# Altium footprint library PcbParts.PcbLib: 11 footprints
Each footprint in its own frame and in the unit in brackets; x right, y up, seen from the top. Pads: shape width x height; smd on the part's side, far side on the other; paste and mask are expansions set on the pad; w line width, h text height; cw(c..) or ccw(c..) is an arc to the next point about the centre after c.
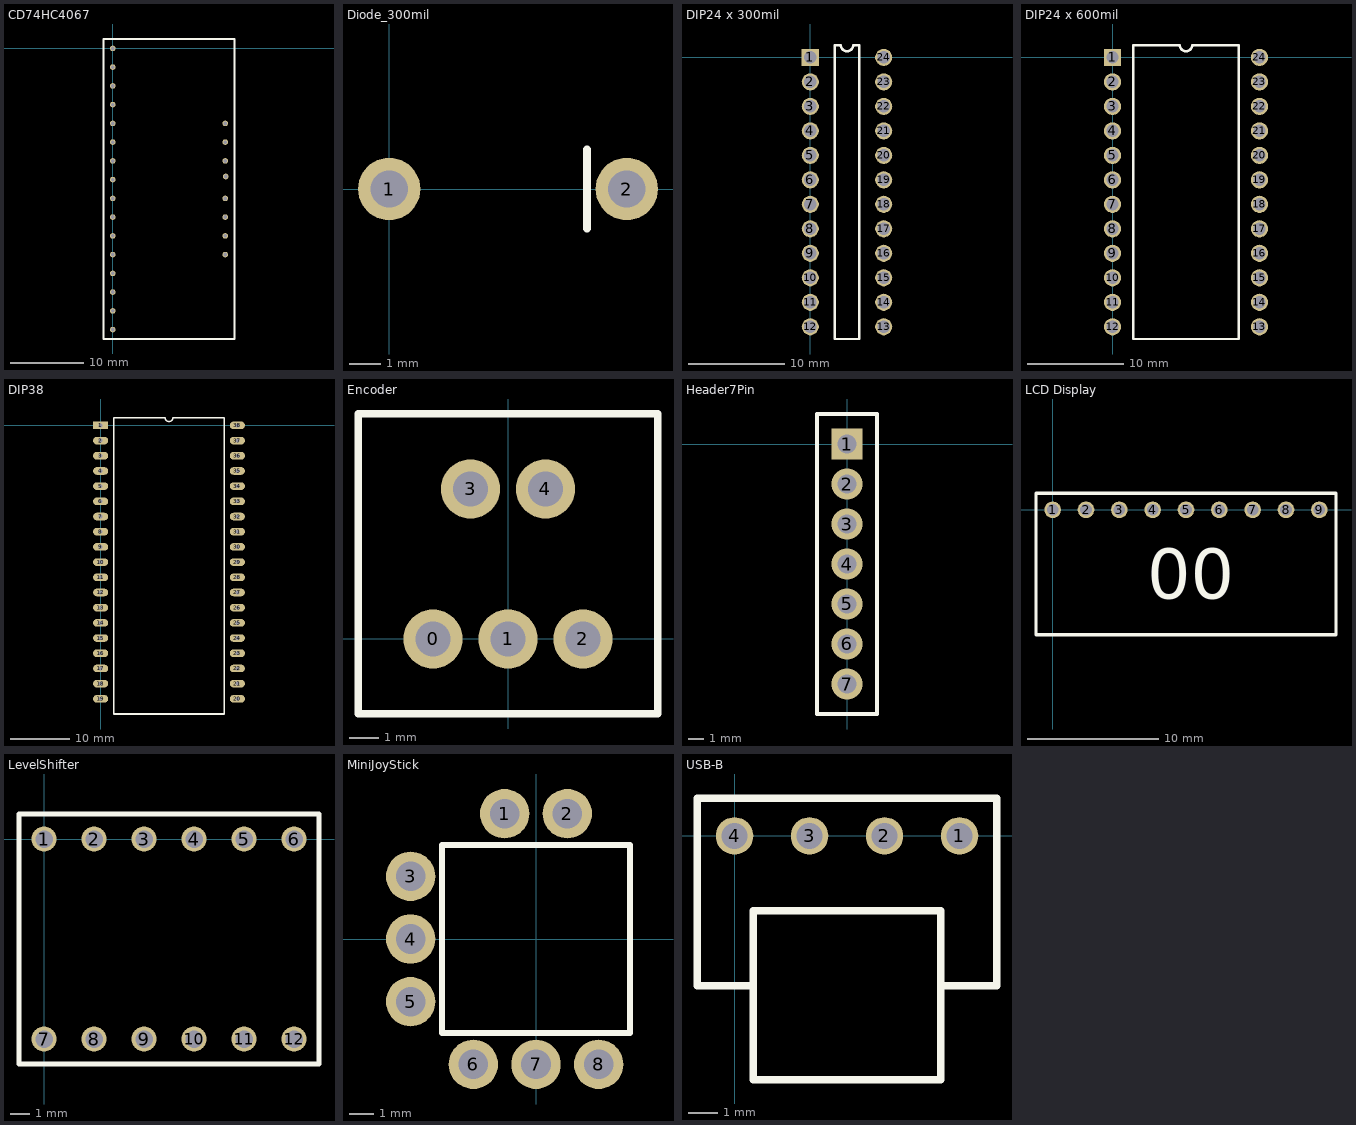
[diagram p0: the footprints below, top view; thin cyan lines are the x and y axes]

## CD74HC4067 [mil] "MUX"
pads (24):
  round 30 hole 20: 1(600,-400) 2(0,-800) 3(0,-900) 4(0,-1000) 5(0,-1100) 6(0,-1200) 7(0,-1300) 8(0,-1400) 9(0,-1500) 10(600,-800) 11(602.44,-683.24) 12(600,-1100) 13(600,-500) 14(600,-600) 15(600,-900) 16(0,0) 17(0,-100) 18(0,-200) 19(0,-300) 20(0,-400) 21(0,-500) 22(0,-600) 23(0,-700) 24(600,-1000)
Top Overlay:
  lines w10: -50,-1550 -50,50 650,50 650,-1550 -50,-1550

## Diode_300mil [mm]
pads (2):
  round 2 hole 1.2: 1(0,0) 2(7.62,0)
Top Overlay:
  lines w0.254: 6.35,-1.27 6.35,1.27

## DIP24 x 300mil [mil]
pads (24):
  rect 70x70 hole 50: 1(0,0)
  round 70 hole 50: 2(0,-100) 3(0,-200) 4(0,-300) 5(0,-400) 6(0,-500) 7(0,-600) 8(0,-700) 9(0,-800) 10(0,-900) 11(0,-1000) 12(0,-1100) 13(300,-1100) 14(300,-1000) 15(300,-900) 16(300,-800) 17(300,-700) 18(300,-600) 19(300,-500) 20(300,-400) 21(300,-300) 22(300,-200) 23(300,-100) 24(300,0)
Top Overlay:
  lines w10: 100,-1150 200,-1150 200,50 175,50 cw(c150,50) 125,50 100,50 100,-1150

## DIP24 x 600mil [mil]
pads (24):
  rect 70x70 hole 50: 1(0,0)
  round 70 hole 50: 2(0,-100) 3(0,-200) 4(0,-300) 5(0,-400) 6(0,-500) 7(0,-600) 8(0,-700) 9(0,-800) 10(0,-900) 11(0,-1000) 12(0,-1100) 13(600,-1100) 14(600,-1000) 15(600,-900) 16(600,-800) 17(600,-700) 18(600,-600) 19(600,-500) 20(600,-400) 21(600,-300) 22(600,-200) 23(600,-100) 24(600,0)
Top Overlay:
  lines w10: 85,-1150 85,50 275,50 ccw(c300,50) 325,50 515,50 515,-1150 85,-1150

## DIP38 [mil]
pads (38):
  rect 100x50 hole 25: 1(0,0)
  oval 100x50 hole 25: 2(0,-100) 3(0,-200) 4(0,-300) 5(0,-400) 6(0,-500) 7(0,-600) 8(0,-700) 9(0,-800) 10(0,-900) 11(0,-1000) 12(0,-1100) 13(0,-1200) 14(0,-1300) 15(0,-1400) 16(0,-1500) 17(0,-1600) 18(0,-1700) 19(0,-1800) 20(900,-1800) 21(900,-1700) 22(900,-1600) 23(900,-1500) 24(900,-1400) 25(900,-1300) 26(900,-1200) 27(900,-1100) 28(900,-1000) 29(900,-900) 30(900,-800) 31(900,-700) 32(900,-600) 33(900,-500) 34(900,-400) 35(900,-300) 36(900,-200) 37(900,-100) 38(900,0)
Top Overlay:
  lines w10: 85,-1900 815,-1900 815,50 475,50 cw(c450,50) 425,50 85,50 85,-1900

## Encoder [mm]
pads (5):
  round 2 hole 1.2: 0(-2.54,0) 1(0,0) 2(2.54,0) 3(-1.27,5.08) 4(1.27,5.08)
Top Overlay:
  lines w0.254: -5.08,-2.54 5.08,-2.54 5.08,7.62 -5.08,7.62 -5.08,-1.27 -5.08,-2.54

## Header7Pin [mm]
pads (7):
  rect 2x2 hole 1.2: 1(0,0)
  round 2 hole 1.2: 2(0,-2.54) 3(0,-5.08) 4(0,-7.62) 5(0,-10.16) 6(0,-12.7) 7(0,-15.24)
Top Overlay:
  lines w0.254: -1.905,-17.145 1.905,-17.145 1.905,1.905 -1.905,1.905 -1.905,-17.145

## LCD Display [mil]
pads (9):
  round 50 hole 35: 1(0,0) 2(100,0) 3(200,0) 4(300,0) 5(400,0) 6(500,0) 7(600,0) 8(700,0) 9(800,0)
Top Overlay:
  lines w10: -50,-375 -50,50 850,50 850,-375 -50,-375
  text "00" at 283,-267 h150

## LevelShifter [mil]
pads (12):
  round 50 hole 35: 1(0,0) 2(100,0) 3(200,0) 4(300,0) 5(400,0) 6(500,0) 7(0,-400) 8(100,-400) 9(200,-400) 10(300,-400) 11(400,-400) 12(500,-400)
Top Overlay:
  lines w10: -50,-450 -50,50 550,50 550,-450 -50,-450

## MiniJoyStick [mm]
pads (8):
  round 2 hole 1.2: 1(-1.27,5.08) 2(1.27,5.08) 3(-5.08,2.54) 4(-5.08,0) 5(-5.08,-2.54) 6(-2.54,-5.08) 7(0,-5.08) 8(2.54,-5.08)
Top Overlay:
  lines w0.254: -3.81,-3.81 3.81,-3.81 3.81,3.81 -3.81,3.81 -3.81,-3.81

## USB-B [mil]
pads (4):
  round 50 hole 35: 1(300,0) 2(200,0) 3(100,0) 4(0,0)
Top Overlay:
  lines w10: 25,-200 -50,-200 -50,50 350,50 350,-200 275,-200 ; 25,-325 25,-225 25,-100 275,-100 275,-325 25,-325